# EAGLE library part HMC5883L (library HMC5883L)
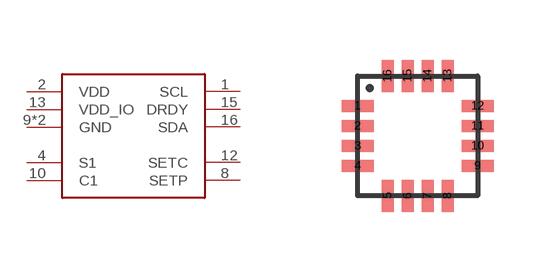
[diagram p0: symbol with the pads of LPCC16; footprint LPCC16]

Designator prefix -

## HMC5883L  [LPCC16]
1  SCL  in
2  VDD  pwr
4  S1  pwr
8  SETP  pas
9  GND
10  C1  pas
11  GND
12  SETC  pas
13  VDD_IO  pwr
15  DRDY  in
16  SDA  in

## Footprint LPCC16 (pad centres in mm)
smd 0.8 x 0.3: 1 -1.5,0.75; 2 -1.5,0.25; 3 -1.5,-0.25; 4 -1.5,-0.75; 9 1.5,-0.75; 10 1.5,-0.25; 11 1.5,0.25; 12 1.5,0.75
smd 0.3 x 0.8: 5 -0.75,-1.5; 6 -0.25,-1.5; 7 0.25,-1.5; 8 0.75,-1.5; 13 0.75,1.5; 14 0.25,1.5; 15 -0.25,1.5; 16 -0.75,1.5